# Altium schematic symbol library SSW-105-01-G-D-LL.SchLib: 1 symbol
Pins are listed as number, name and electrical type; pins without a type are passive.

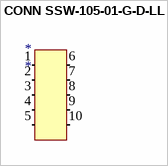
[diagram p0: symbol CONN SSW-105-01-G-D-LL]

## CONN SSW-105-01-G-D-LL
designator *
pins: 1 (in), 2 (in), 3 (in), 4 (in), 5 (in), 6 (in), 7 (in), 8 (in), 9 (in), 10 (in)